# Altium schematic symbol library CSD17506Q5A.Schlib: 1 symbol
Pins are listed as number, name and electrical type; pins without a type are passive.

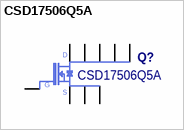
[diagram p0: symbol CSD17506Q5A]

## CSD17506Q5A
designator Q?
Manufacturer Part Number: CSD17506Q5A
pins: 1 S, 2 S, 3 S, 4 G, 5 D, 6 D, 7 D, 8 D, 9 D